# EAGLE library part LM211P (library custom)
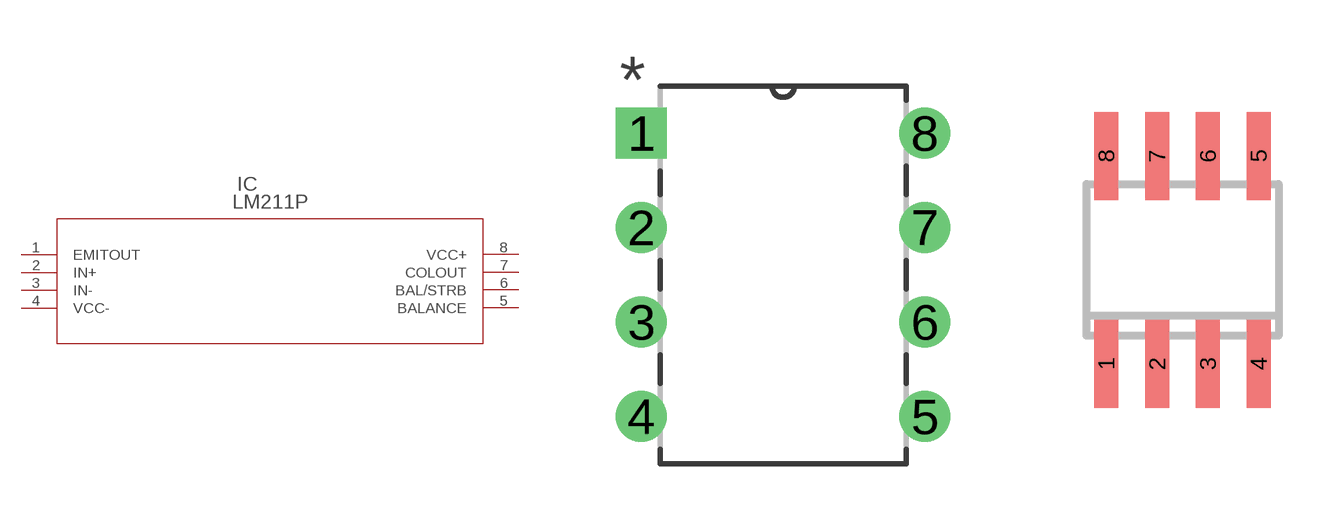
[diagram p4: symbol with the pads of P8; footprints P8, SO08]

Designator prefix IC

## LM211PDIP (DATASHEET_URL: http://www.ti.com/lit/gpn/LM211; DESCRIPTION: Differential Comparator With Strobes; FAMILY_NAME: COMPARATORS (SL); GENERIC_PART_NUMBER: LM211; INDUSTRY_STD_PKG_TYPE: PDIP; MANUFACTURER: Texas Instruments; PACKAGE_DESIGNATOR: P; PIN_COUNT: 8)  [P8]
1  EMITOUT  out
2  IN+  in
3  IN-  in
4  VCC-  pwr
5  BALANCE  pas
6  BAL/STRB  pas
7  COLOUT  out
8  VCC+  pwr

## LM211PSOIC  [SO08]
Pads as for P8

## Footprint P8 (pad centres in mm)
drill 0.864 pad 1.372 square: 1 -7.62,7.62
drill 0.864 pad 1.372: 2 -7.62,5.08; 3 -7.62,2.54; 4 -7.62,0; 5 0,0; 6 0,2.54; 7 0,5.08; 8 0,7.62

## Footprint SO08 (pad centres in mm)
Small Outline Package 8 NS Package M08A
smd 0.6 x 2.2: 1 -1.905,-2.6; 2 -0.635,-2.6; 3 0.635,-2.6; 4 1.905,-2.6; 5 1.905,2.6; 6 0.635,2.6; 7 -0.635,2.6; 8 -1.905,2.6